# Altium schematic symbol library PBL - Connectors.SCHLIB: 91 symbols (part 1 of 2)
Pins are listed as number, name and electrical type; pins without a type are passive.

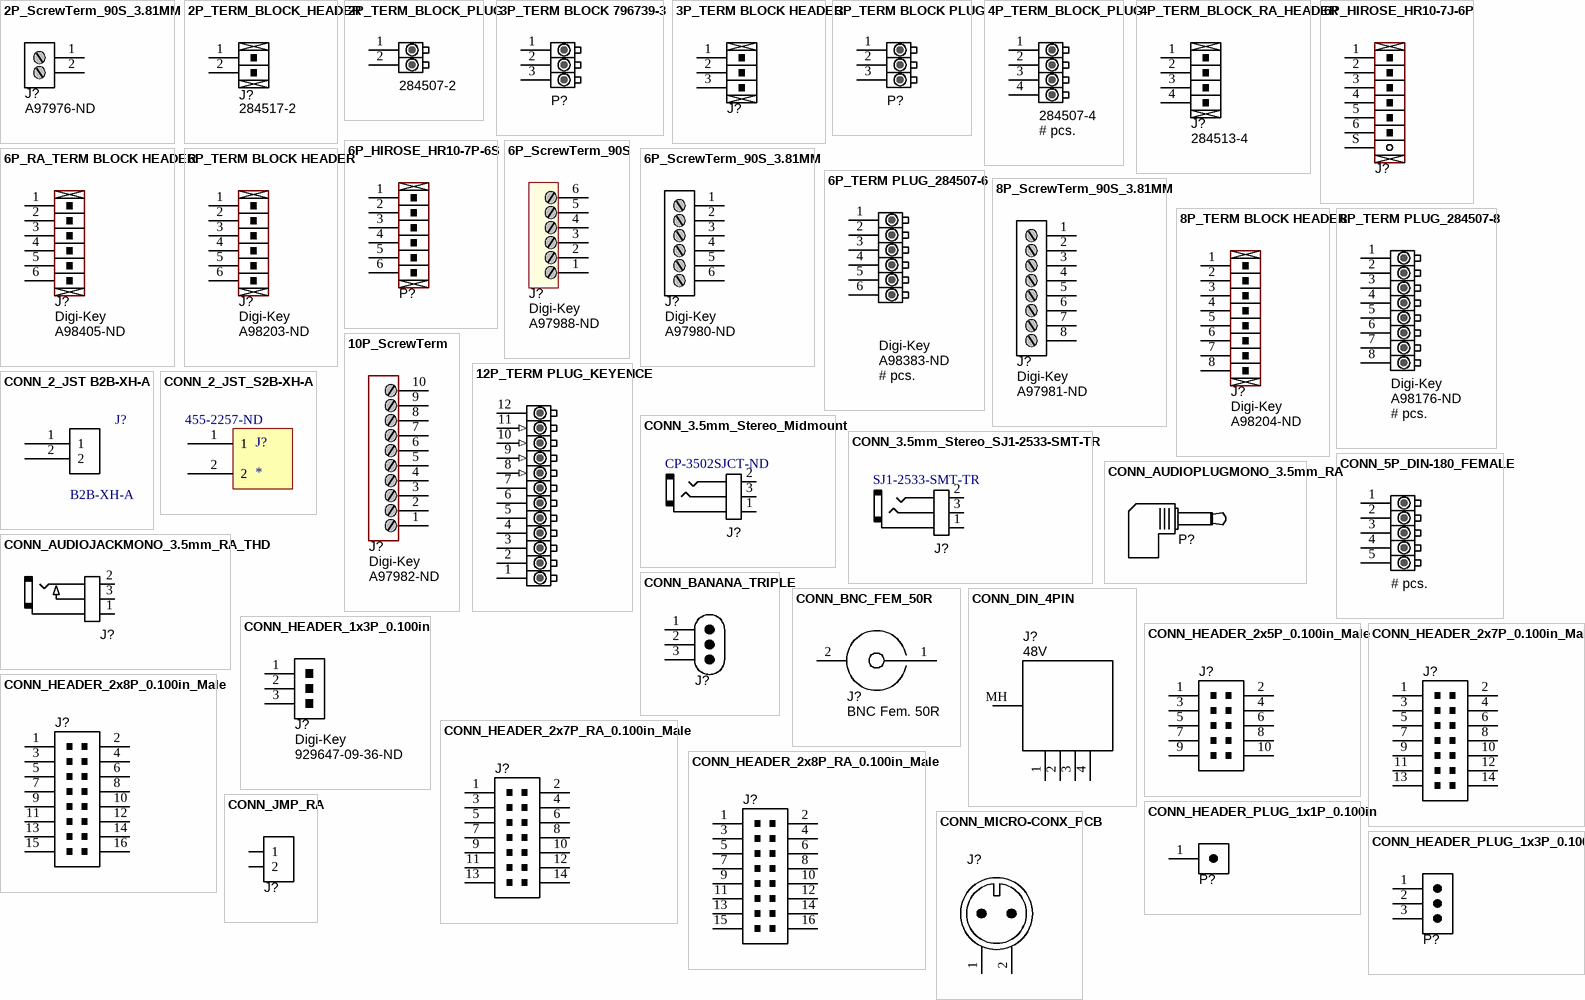
[diagram p0: symbols 2P_ScrewTerm_90S_3.81MM to CONN_MICRO-CONX_PCB]

## 2P_ScrewTerm_90S_3.81MM
designator J?, comment Supplier Part Number 1: A97976-ND  (hidden comment: Stackable ScrewTerm)
Terminal Block Screw Type THT 2-Position 3.81mm pitch; Manufacturer 1: Tyco Electronics; Manufacturer Part Number 1: 1776113-2; Value: 2 position; Pitch: 0.150" (3.81mm); Positions Per Level: 2; SCDType: undef; Package / Case: Side Entry; 3.81mm pitch; Category: Connectors Interconnects; Color: Black; Supplier 1: Digi-Key
footprint 2P_PCB_ScrewTerm_90S_3.81MM (TERM BLOCK 2POS SIDE ENT STACKABLE 3.81MM)
pins: 1, 2

## 2P_TERM_BLOCK_HEADER
designator J?  Manufacturer Part Number 1: 284517-2  (hidden comment: *)
Terminal Block THT 2-position header 3.81mm pitch; Manufacturer 1: TE Connectivity; Pitch: 0.150" (3.81mm); Voltage: 300V; Positions Per Level: 2; Mating Connector: 284507-2; SCDType: undef; Category: Connectors; Mounting Type: Through Hole; Terminal Block Type: Header, Male Pins, Right-angle, Shrouded (4 Side); Package / Case: Header; 3.81mm pitch; Supplier 1: Digi-Key; Supplier Part Number 1: A98410-ND
footprint 2P_PCB_TERM_BLOCK_HDR (TERM BLOCK HDR 2POS 3.81MM)
pins: 1, 2

## 2P_TERM_BLOCK_PLUG
designator J?, comment Manufacturer Part Number 1: 284507-2  (hidden comment: # pcs.)  (mechanical)
Terminal Block Plug 2-position 3.81mm pitch; Manufacturer 1: Tyco Electronics; Pitch: 0.150" (3.81mm); Mating Orientation: In-Line with Wire; Current: 11A; Voltage: 300V; Wire Gauge: 14-30 AWG; Number of Levels: 1; Positions Per Level: 2; SCDType: undef; Category: Connectors Interconnects; Terminal Block Type: Plug, Female Sockets; Color: Green; Mounting Type: Free Hanging (In-Line); Termination: Screw; ComponentLink1URL: http://documents.tycoelectronics.com/commerce/DocumentDelivery/DDEController?Action=srchrtrv&DocNm=284507&DocType=CD&DocLang=EN; ComponentLink1Description: http://documents.tycoelectronics.com/commerce/DocumentDelivery/DDEController?Action=srchrtrv&DocNm=284507&DocType=CD&DocLang=EN; Supplier 1: Digi-Key; Supplier Part Number 1: A98175-ND
pins: 1, 2

## 3P_TERM BLOCK 796739-3
designator P?  (value not drawn)
3 Position Wire to Board Terminal Block Horizontal with Board 0.375" (9.53mm) Through Hole; Manufacturer: TE Connectivity AMP Connectors; Manufacturer Part Number: 796739-3; Number of Levels: 1; Positions Per Level: 3; Current: 30A; Voltage: 600V; Wire Gauge: 10-30 AWG; Wire Termination: Screw - Rising Cage Clamp; Clamp Material - Plating: Brass - Nickel Plated; Torque - Screw: 0.79 Nm (7.0 Lb-In); Screw Thread: M3; Supplier 1: Digi-Key; Supplier Part Number 1: A98274-ND; RoHS: RoHS Compliant; Category: Connectors, Interconnects; Stock 1: 1080; Pricing 1: 1=5.17, 10=3.942, 25=3.692, 50=3.2816, 100=3.2104, 250=2.96064, 500=2.6753, 1000=2.37209, 2500=2.274 (USD); Packaging: Tray; Part Status: Active; Pitch: 0.375" (9.53mm); Mating Orientation: Horizontal with Board; Mounting Type: Through Hole; Features: Interlocking (Side); Color: Green; Operating Temperature: -; Housing Material: Polyamide (PA66), Nylon 6/6; Contact Material - Plating: -; Screw Material - Plating: Brass - Nickel Plated; ComponentLink1URL: http://www.te.com/commerce/DocumentDelivery/DDEController?Action=srchrtrv&DocNm=796739&DocType=Customer+Drawing&DocLang=English; ComponentLink1Description: http://www.te.com/commerce/DocumentDelivery/DDEController?Action=srchrtrv&DocNm=796739&DocType=Customer+Drawing&DocLang=English
footprint TE 796739-3 3 Screw Terminal
pins: 1, 2, 3

## 3P_TERM BLOCK HEADER
designator J?  (value not drawn)
Terminal Block THT 3-Position header 3.81mm pitch; Manufacturer 1: TE Connectivity; Manufacturer Part Number 1: 284517-3; Pitch: 0.150" (3.81mm); Voltage: 300V; Mating Connector: 284507-3; Value: 3 position; Positions Per Level: 3; SCDType: undef; Category: Connectors; Mounting Type: Through Hole; Terminal Block Type: Header, Male Pins, Shrouded (4 Side); Package / Case: Side Entry; 3.81mm pitch; Supplier 1: Digi-Key; Supplier Part Number 1: A98411-ND; ComponentLink1URL: http://www.te.com/commerce/DocumentDelivery/DDEController?Action=srchrtrv&DocNm=284517&DocType=Customer+Drawing&DocLang=English; ComponentLink1Description: http://www.te.com/commerce/DocumentDelivery/DDEController?Action=srchrtrv&DocNm=284517&DocType=Customer+Drawing&DocLang=English
footprint 3P_PCB_TERM_BLOCK_HDR (TERM BLOCK HDR 3POS 3.81MM)
pins: 1, 2, 3

## 3P_TERM BLOCK PLUG
designator P?  (value not drawn)  (mechanical)
Terminal block plug 3-position 3.81mm pitch; Manufacturer 1: TE Connectivity; Manufacturer Part Number 1: 284507-3; Pitch: 0.150" (3.81mm); Voltage: 300V; Mating Connector: 284517-3; Value: 3 position; Positions Per Level: 3; Plug Wire Entry: 180°; Wire Gauge: 14-30 AWG; SCDType: undef; Category: Connectors; Mounting Type: Free Hanging (In-Line); Terminal Block Type: Plug, Female Sockets; Supplier 1: Digi-Key; Supplier Part Number 1: A98380-ND; ComponentLink2URL: http://www.te.com/commerce/DocumentDelivery/DDEController?Action=srchrtrv&DocNm=284507&DocType=Customer+Drawing&DocLang=English; ComponentLink2Description: http://www.te.com/commerce/DocumentDelivery/DDEController?Action=srchrtrv&DocNm=284507&DocType=Customer+Drawing&DocLang=English
pins: 1, 2, 3

## 4P_TERM_BLOCK_PLUG
designator J?, comment # pcs.  Manufacturer Part Number 1: 284507-4  (mechanical)
Terminal Block Plug 4-position 3.81mm pitch; Manufacturer 1: Tyco Electronics; Pitch: 0.150" (3.81mm); Mating Orientation: In-Line with Wire; Current: 11A; Voltage: 300V; Wire Gauge: 14-30 AWG; Number of Levels: 1; Positions Per Level: 4; Value: 4 position; SCDType: undef; Category: Connectors Interconnects; Terminal Block Type: Plug, Female Sockets; Color: Green; Mounting Type: Free Hanging (In-Line); Features: -; Termination: Screw; ComponentLink1URL: http://documents.tycoelectronics.com/commerce/DocumentDelivery/DDEController?Action=srchrtrv&DocNm=284507&DocType=CD&DocLang=EN; ComponentLink1Description: http://documents.tycoelectronics.com/commerce/DocumentDelivery/DDEController?Action=srchrtrv&DocNm=284507&DocType=CD&DocLang=EN; QtyOverride: *; Supplier 1: Digi-Key; Supplier Part Number 1: A98381-ND
pins: 1, 2, 3, 4

## 4P_TERM_BLOCK_RA_HEADER
designator J?  Manufacturer Part Number 1: 284513-4  (hidden comment: *)
Terminal Block THT Right Angle 4-Position Header 3.81mm pitch; Manufacturer 1: Tyco Electronics; Pitch: 0.150" (3.81mm); Voltage: 300V; Value: 4 position; Positions Per Level: 6; SCDType: undef; Category: Connectors; Mounting Type: Through Hole; Terminal Block Type: Header, Male Pins, Right-angle, Shrouded (4 Side); Package / Case: Side Entry; 3.81mm pitch; Supplier 1: Digi-Key; Supplier Part Number 1: A98403-ND
footprint 4P_PCB_TERM_BLOCK_HDR_RA (TERM BLOCK HDR 4POS 3.81MM RIGHT-ANGLE)
pins: 1, 2, 3, 4

## 6P_HIROSE_HR10-7J-6P
designator J?, comment HR10-7J-6P(73)  (value not drawn)
Connector 6 jack with pin insert; Manufacturer 1: Hirose Electric Co Ltd; Value: 6 position; SCDType: undef; Category: Connectors; Manufacturer Part Number 1: HR10-7J-6P(73); Supplier 1: Digi-Key; Supplier Part Number 1: HR1567-ND
footprint HDR1X6S (Connector; Header; 6 Position with shield term)
pins: 1, 2, 3, 4, 5, 6, S

## 6P_HIROSE_HR10-7P-6S
designator P?, comment HR10-7P-6S(73)  (value not drawn)
Connector 6 contact with socket insert; Manufacturer 1: Hirose Electric Co Ltd; Value: 6 position; SCDType: undef; Category: Connectors; Manufacturer Part Number 1: HR10-7P-6S(73); Supplier 1: Digi-Key; Supplier Part Number 1: HR1561-ND
footprint HDR1X6 (Connector; Header; 6 Position)
pins: 1, 2, 3, 4, 5, 6

## 6P_RA_TERM BLOCK HEADER
designator J?  Supplier 1: Digi-Key  Supplier Part Number 1: A98405-ND  (hidden comment: *)
Terminal Block THT Right Angle 6-Position Header 3.81mm pitch; Manufacturer 1: Tyco Electronics; Manufacturer Part Number 1: 284513-6; Pitch: 0.150" (3.81mm); Voltage: 300V; Mating Connector: 284507-6; Value: 6 position; Positions Per Level: 6; SCDType: undef; Category: Connectors; Mounting Type: Through Hole; Terminal Block Type: Header, Male Pins, Right-angle, Shrouded (4 Side); Package / Case: Side Entry; 3.81mm pitch
footprint 6P_PCB_TERM BLOCK HDR_RA (TERM BLOCK HDR 6POS 3.81MM RIGHT-ANGLE)
pins: 1, 2, 3, 4, 5, 6

## 6P_ScrewTerm_90S
designator J?  Supplier 1: Digi-Key  Supplier Part Number 1: A97988-ND  (hidden comment: *)
TERM BLOCK 6POS SIDE ENT STACKABLE 5.08MM; Manufacturer 1: Tyco Electronics; Manufacturer Part Number 1: 1776119-6; Current: 10A; Mating Orientation: Horizontal with Board; Pitch: 0.200" (5.08mm); Voltage: 300V; Wire Gauge: 15-17 AWG; Number of Levels: 1; Positions Per Level: 6; SCDType: undef; Category: Connectors Interconnects; Color: Black; Features: -; Mounting Type: Through Hole; Terminal Block Type: Wire to Board; Termination: Screw; ComponentLink1URL: http://documents.tycoelectronics.com/commerce/DocumentDelivery/DDEController?Action=srchrtrv&DocNm=1776119&DocType=CD&DocLang=EN; ComponentLink1Description: http://documents.tycoelectronics.com/commerce/DocumentDelivery/DDEController?Action=srchrtrv&DocNm=1776119&DocType=CD&DocLang=EN; Package / Case: Side Entry; 5.08mm pitch
footprint 6P_PCB_ScrewTerm90S (TERM BLOCK 6POS SIDE ENT STACKABLE 5.08MM)
pins: 1, 2, 3, 4, 5, 6

## 6P_ScrewTerm_90S_3.81MM
designator J?, comment Supplier 1: Digi-Key  Supplier Part Number 1: A97980-ND  (hidden comment: Stackable ScrewTerm)
Terminal Block, THT, 6-Position screwterm, 3.81mm pitch; Manufacturer 1: Tyco Electronics; Manufacturer Part Number 1: 1776113-6; Value: 6 position; Pitch: 0.150" (3.81mm); Positions Per Level: 6; SCDType: undef; Package / Case: Side Entry; 3.81mm pitch; Category: Connectors Interconnects; Color: Black
footprint 6P_PCB_ScrewTerm_90S_3.81MM (TERM BLOCK 6POS SIDE ENT STACKABLE 3.81MM)
pins: 1, 2, 3, 4, 5, 6

## 6P_TERM BLOCK HEADER
designator J?  Supplier 1: Digi-Key  Supplier Part Number 1: A98203-ND  (hidden comment: *)
Terminal Block, THT, 6-Position header, 3.81mm pitch; Manufacturer 1: Tyco Electronics; Manufacturer Part Number 1: 284517-6; Pitch: 0.150" (3.81mm); Voltage: 300V; Mating Connector: 284507-6; Value: 6 position; Positions Per Level: 6; SCDType: undef; Category: Connectors; Mounting Type: Through Hole; Terminal Block Type: Header, Male Pins, Shrouded (4 Side); Package / Case: Side Entry; 3.81mm pitch
footprint 6P_PCB_TERM BLOCK HDR (TERM BLOCK HDR 6POS 3.81MM)
pins: 1, 2, 3, 4, 5, 6

## 6P_TERM PLUG_284507-6
designator J?, comment # pcs.  Supplier 1: Digi-Key  Supplier Part Number 1: A98383-ND  (mechanical)
Terminal Block Plug, 6-position, 3.81mm pitch; Manufacturer 1: Tyco Electronics; Manufacturer Part Number 1: 284507-6; Pitch: 0.150" (3.81mm); Mating Orientation: In-Line with Wire; Current: 11A; Voltage: 300V; Wire Gauge: 14-30 AWG; Number of Levels: 1; Positions Per Level: 6; Value: 6 position; SCDType: undef; Category: Connectors Interconnects; Terminal Block Type: Plug, Female Sockets; Color: Green; Mounting Type: Free Hanging (In-Line); Features: -; Termination: Screw; QtyOverride: *
pins: 1, 2, 3, 4, 5, 6

## 8P_ScrewTerm_90S_3.81MM
designator J?, comment Supplier 1: Digi-Key  Supplier Part Number 1: A97981-ND  (hidden comment: Stackable ScrewTerm)
Terminal Block, THT, 8-Position screwterm, 3.81mm pitch; Manufacturer 1: Tyco Electronics; Manufacturer Part Number 1: 1776113-8; Value: 8 position; Pitch: 0.150" (3.81mm); Positions Per Level: 8; SCDType: undef; Package / Case: Side Entry; 3.81mm pitch; Category: Connectors Interconnects; Color: Black
footprint 8P_PCB_ScrewTerm_90S_3.81MM (TERM BLOCK 8POS SIDE ENT STACKABLE 3.81MM)
pins: 1, 2, 3, 4, 5, 6, 7, 8

## 8P_TERM BLOCK HEADER
designator J?  Supplier 1: Digi-Key  Supplier Part Number 1: A98204-ND  (hidden comment: *)
Terminal Block, THT, 8-Position header, 3.81mm pitch; Manufacturer 1: Tyco Electronics; Manufacturer Part Number 1: 284517-8; Pitch: 0.150" (3.81mm); Voltage: 300V; Mating Connector: 284507-8; Value: 8 position; Positions Per Level: 8; SCDType: undef; Category: Connectors; Mounting Type: Through Hole; Terminal Block Type: Header, Male Pins, Shrouded (4 Side); Package / Case: Side Entry; 3.81mm pitch
footprint 8P_PCB_TERM BLOCK HDR (TERM BLOCK HDR 8POS 3.81MM)
pins: 1, 2, 3, 4, 5, 6, 7, 8

## 8P_TERM PLUG_284507-8
designator J?, comment # pcs.  Supplier 1: Digi-Key  Supplier Part Number 1: A98176-ND  (mechanical)
Terminal Block Plug, 8-position, 3.81mm pitch; Manufacturer 1: Tyco Electronics; Manufacturer Part Number 1: 284507-8; Pitch: 0.150" (3.81mm); Mating Orientation: In-Line with Wire; Current: 11A; Voltage: 300V; Wire Gauge: 14-30 AWG; Number of Levels: 1; Positions Per Level: 8; Value: 8 position; SCDType: undef; Category: Connectors Interconnects; Terminal Block Type: Plug, Female Sockets; Color: Green; Mounting Type: Free Hanging (In-Line); Features: -; Termination: Screw; ComponentLink1URL: http://documents.tycoelectronics.com/commerce/DocumentDelivery/DDEController?Action=srchrtrv&DocNm=284507&DocType=CD&DocLang=EN; ComponentLink1Description: http://documents.tycoelectronics.com/commerce/DocumentDelivery/DDEController?Action=srchrtrv&DocNm=284507&DocType=CD&DocLang=EN; QtyOverride: *
pins: 1, 2, 3, 4, 5, 6, 7, 8

## 10P_ScrewTerm
designator J?  Supplier 1: Digi-Key  Supplier Part Number 1: A97982-ND  (hidden comment: *)
TERM BLOCK 10POS SIDE ENT 3.81MM; Manufacturer 1: Tyco Electronics; Manufacturer Part Number 1: 1-1776113-0; Current: 12A; Mating Orientation: Horizontal with Board; Pitch: 0.150" (3.81mm); Voltage: 150V; Wire Gauge: 16-28 AWG; Number of Levels: 1; Positions Per Level: 10; SCDType: undef; Category: Connectors; Color: Black; Features: -; Mounting Type: Through Hole; Terminal Block Type: Wire to Board; Termination: Screw; ComponentLink1URL: http://documents.tycoelectronics.com/commerce/DocumentDelivery/DDEController?Action=srchrtrv&DocNm=1776113&DocType=CD&DocLang=EN; ComponentLink1Description: http://documents.tycoelectronics.com/commerce/DocumentDelivery/DDEController?Action=srchrtrv&DocNm=1776113&DocType=CD&DocLang=EN; Package / Case: Side Entry; 3.81mm pitch
footprint 10P_PCB_ScrewTerm (TERM BLOCK 10POS SIDE ENT 3.81MM)
pins: 1, 2, 3, 4, 5, 6, 7, 8, 9, 10

## 12P_TERM PLUG_KEYENCE
designator J?, comment 12 position  (value not drawn)  (graphical)
Terminal Block Plug, 12-position, Keyence Laser Controller; Wire Gauge: 28-16 AWG; Value: 12 position
pins: 1 24VDC- (power), 2 24VDC+ (power), 3 OUT1 HI (oc), 4 OUT1 GO (oc), 5 OUT1 LO (oc), 6 N.C. (oc), 7 GND OUT (power), 8 TIMING1 (in), 9 RESET1 (in), 10 ZERO1 (in), 11 REMOTE (in), 12 GND IN (power)

## CONN_2_JST B2B-XH-A
designator J?, comment B2B-XH-A
CONN HEADER XH SIDE 2POS 2.5MM; Supplier 1: Digi-Key; Supplier Part Number 1: 455-2247-ND
footprint CONN_JST_XT_TH_2 (CONN HEADER XH TOP 2POS 2.5MM)
pins: 1, 2

## CONN_2_JST_S2B-XH-A
designator J?  Supplier Part Number 1: 455-2257-ND
CONN HEADER XH SIDE 2POS 2.5MM; Supplier 1: Digi-Key
footprint CONN_JST_XH_TH_RIGHT_2 (CONN HEADER XH TOP 2POS 2.5MM)
pins: 1, 2

## CONN_3.5mm_Stereo_Midmount
designator J?, comment Supplier Part Number 1: CP-3502SJCT-ND  (hidden comment: Stereo phone jack)
Stereo phone 3.5 Midmount; SCDType: undef; Material: Plastic, metal; Supplier 1: Digi-Key
footprint SJ-3502-SMT
pins: 1 Base, 2 TIP, 3 Middle

## CONN_3.5mm_Stereo_SJ1-2533-SMT-TR
designator J?, comment SJ1-2533-SMT-TR
Stereo phone 3.5 Midmount; Manufacturer: CUI Inc.; Description: CONN JACK STEREO 2.5MM SMD R/A; Connector Type: Phone Jack; Gender: Female; Signal Lines: Stereo (3 Conductor, TRS); Industry Recognized Mating Diameter: 2.50mm (0.094", 3/32", Sub Mini, Miniature) - Headphone; Actual Diameter: 0.102" (2.60mm); Number of Positions/Contacts: 3 Conductors, 3 Contacts; Internal Switch(s): Does Not Contain Switch; Shielding: Unshielded; Voltage - Rated: 12VDC; Mating Length/Depth: 0.433" (11.00mm); Body Color: Black; Supplier 1: Digi-Key; Supplier Part Number 1: CP1-2533SJCT-ND; RoHS: RoHS Compliant; Category: Connectors, Interconnects; Stock 1: 29051; Pricing 1: 1=1.12, 10=0.982, 25=0.924, 50=0.8856, 100=0.847, 250=0.77, 500=0.693 (USD); Packaging: Cut Tape (CT); Part Status: Active; Mounting Type: Surface Mount, Right Angle; Termination: Solder; Features: Board Guide; Insulation Color: -; Contact Material - Plating: Gold; Body Material: -; Includes: -; Housing Material: Polyamide (PA6T), Nylon 6T; Contact Material: Brass; Copper Alloy; Cable Opening: -; Panel Hole Size: -; Thread Size: -; Operating Temperature: -25°C ~ 85°C; ComponentLink1URL: https://www.cui.com/product/resource/digikeypdf/sj1-253x-smt_series.pdf; ComponentLink1Description: https://www.cui.com/product/resource/digikeypdf/sj1-253x-smt_series.pdf; Manufacturer Part Number: SJ1-2533-SMT-TR
footprint AUDIO_CUI_SJ1
pins: 1 Base, 2 TIP, 3 Middle

## CONN_5P_DIN-180_FEMALE
designator P?, comment # pcs.  (mechanical)
Connector DIN-180 5-Pin Female Plug; Manufacturer 1: CUI Inc; Manufacturer Part Number 1: SD-50J; Mating Orientation: In-Line with Wire; Value: 5-Pin DIN-180; QtyOverride: 1; SCDType: undef; Category: Connectors Interconnects; Mounting Type: Free Hanging (In-Line); Supplier 1: Digi-Key; Supplier Part Number 1: CP-1150-ND
pins: 1, 2, 3, 4, 5

## CONN_AUDIOJACKMONO_3.5mm_RA_THD
designator J?, comment Mono phone jack  (value not drawn)
3.5mm Audio jack - Mono; Manufacturer 1: CUI Inc; Manufacturer Part Number 1: MJ-3502; Ratings: 1A; 12VDC; SCDType: undef; Material: Plastic, brass, silver; Package / Case: right-angle THD; Supplier 1: Digi-Key; Supplier Part Number 1: CP-3502MJ-ND
footprint CONN_AudioJackMono (CUI MJ-3502 3.5mm audio jack - mono)
pins: 1 Base, 2 TIP, 3 Middle

## CONN_AUDIOPLUGMONO_3.5mm_RA
designator P?, comment Mono phone plug  (value not drawn)  (mechanical)
3.5mm Audio plug - Mono; Manufacturer 1: Tensility International Corp; Manufacturer Part Number 1: CA-2206; 1st Connector: Phone Plug, 3.5mm (1/8"), Right Angle; 2nd Connector: Cable (Round); Shielding: Shielded; SCDType: undef; Package / Case: right-angle THD; Supplier 1: Digi-Key; Supplier Part Number 1: CP-2206-ND; Channels: Mono; Length: 6.0' (1.83m); Color: Black; ComponentLink1URL: http://www.tensility.com/pdffiles/CA-2206.pdf; ComponentLink1Description: http://www.tensility.com/pdffiles/CA-2206.pdf
pins: 1, 2

## CONN_BANANA_TRIPLE
designator J?, comment triple banana jack  (value not drawn)
Banana Jack triple panel mount; Manufacturer 1: Pomona Electronics; Manufacturer Part Number 1: 4601-0; Value: Single-row, 3 positions; Insulation: Mating End Insulated; SCDType: undef; Supplier 1: Digi-Key; Supplier Part Number 1: 501-1379-ND; Type: Banana Jack, Triple; Mounting Type: Panel Mount; Contact Finish: Tin; Contact Material: Brass; ComponentLink1URL: http://www.pomonaelectronics.com/pdf/d4601_1_01.pdf; ComponentLink1Description: http://www.pomonaelectronics.com/pdf/d4601_1_01.pdf
footprint BANANA_TRIPLE (Triple Banana jack, panel mount style)
pins: 1, 2, 3

## CONN_BNC_FEM_50R
designator J?, comment BNC Fem. 50R
Connector BNC 50 Ohm right-angle PCB mounted; Manufacturer 1: TE Connectivity; Manufacturer Part Number 1: 5413515-9; Impedance: 50 Ohm; Ratings: 9400pF; 1500V; SCDType: undef; Category: Connectors; Mounting Type: Through Hole; Supplier 1: Digi-Key; Supplier Part Number 1: A32418-ND; ComponentLink1URL: http://www.te.com/commerce/DocumentDelivery/DDEController?Action=srchrtrv&DocNm=5413515&DocType=Customer+Drawing&DocLang=English; ComponentLink1Description: TE Datasheet
footprint CONN_BNC_RA_PCB (BNC connector, right angle PCB-mounted)
pins: 1, 2

## CONN_DIN_4PIN
designator J?, comment 48V
Connector Power THT 4-PIN DIN Female PCB mount; Manufacturer 1: CUI Inc; Manufacturer Part Number 1: PD-40S; SCDType: undef; Mounting Type: Through Hole; Package / Case: PCB mount; Value: 4-Pin DIN; Supplier 1: Digi-Key; Supplier Part Number 1: CP-7240-ND
footprint CONN_PWR-DIN_4PIN_PD-40S (Power Connector, 4-pin DIN)
pins: 1 +V, 2 GND, 3 GND, 4 +V, MH

## CONN_HEADER_1x3P_0.100in
designator J?  Supplier 1: Digi-Key  Supplier Part Number 1: 929647-09-36-ND  (hidden comment: *)
Pin Header, THT, Single-row, 2.54mm pitch; Manufacturer 1: 3M; Manufacturer Part Number 1: 929647-09-36-I; Pitch: 0.100" (2.54mm); Value: Single-row, 3 positions; QtyOverride: 0.1; SCDType: undef; Category: Connectors; Mounting Type: Through Hole; Terminal Block Type: Header, Male Pins, Single; Package / Case: Pin header; 2.54mm pitch
footprint 1x3POS_HEADER (Connector Header, Single-row 3-position, 0.100" pitch)
pins: 1, 2, 3

## CONN_HEADER_2x5P_0.100in_Male
designator J?, comment shrouded box header  (value not drawn)
Header THD 10 POS Double-row 2.54mm pitch; Manufacturer 1: 3M; Manufacturer Part Number 1: D2510-6002-AR; Pitch: 0.100" (2.54mm); Value: Double-row, 10 positions; QtyOverride: 1; Connector Type: Header, Shrouded; Number of Positions: 10; SCDType: undef; Package / Case: Connector header; 2.54mm pitch; Contact Type: Male Pin; Number of Rows: 2; Row Spacing: 0.100" (2.54mm); Contact Mating Length: 0.243" (6.17mm); ComponentLink1URL: http://multimedia.3m.com/mws/mediawebserver?66666UuZjcFSLXTtm8T_oxMcEVuQEcuZgVs6EVs6E666666--; ComponentLink1Description: http://multimedia.3m.com/mws/mediawebserver?66666UuZjcFSLXTtm8T_oxMcEVuQEcuZgVs6EVs6E666666--; Supplier 1: Digi-Key; Supplier Part Number 1: MHC10E-ND
footprint 10P_PCB_HEADER_BRD_MNT (HEADER BRD MNT 10POS 2.54MM)
pins: 1, 2, 3, 4, 5, 6, 7, 8, 9, 10

## CONN_HEADER_2x7P_0.100in_Male
designator J?, comment shrouded box header  (value not drawn)
Header THD 14 POS Double-row 2.54mm pitch; Manufacturer 1: 3M; Manufacturer Part Number 1: D2514-6002-AR; Pitch: 0.100" (2.54mm); Value: Double-row, 14 positions; QtyOverride: 1; Connector Type: Header, Shrouded; Number of Positions: 14; SCDType: undef; Package / Case: Connector header; 2.54mm pitch; Contact Type: Male Pin; Number of Rows: 2; Row Spacing: 0.100" (2.54mm); Contact Mating Length: 0.243" (6.17mm); ComponentLink1URL: http://multimedia.3m.com/mws/mediawebserver?66666UuZjcFSLXTtm8T_oxMcEVuQEcuZgVs6EVs6E666666--; ComponentLink1Description: http://multimedia.3m.com/mws/mediawebserver?66666UuZjcFSLXTtm8T_oxMcEVuQEcuZgVs6EVs6E666666--; Supplier 1: Digi-Key; Supplier Part Number 1: MHC14E-ND
footprint 14P_PCB_HEADER_BRD_MNT (HEADER BRD MNT 14POS 2.54MM)
pins: 1, 2, 3, 4, 5, 6, 7, 8, 9, 10, 11, 12, 13, 14

## CONN_HEADER_2x7P_RA_0.100in_Male
designator J?, comment shrouded box header  (value not drawn)
Header THD 14 POS Double-row right-angle 2.54mm pitch; Manufacturer 1: 3M; Manufacturer Part Number 1: D2514-5002-AR; Pitch: 0.100" (2.54mm); Value: Double-row, 14 positions; QtyOverride: 1; Connector Type: Header, Shrouded; Number of Positions: 14; SCDType: source; Package / Case: Connector header; 2.54mm pitch; Contact Type: Male Pin; Number of Rows: 2; Row Spacing: 0.100" (2.54mm); Contact Mating Length: 0.243" (6.17mm); ComponentLink1URL: http://multimedia.3m.com/mws/mediawebserver?66666UuZjcFSLXTtm8T_oxMcEVuQEcuZgVs6EVs6E666666--; ComponentLink1Description: http://multimedia.3m.com/mws/mediawebserver?66666UuZjcFSLXTtm8T_oxMcEVuQEcuZgVs6EVs6E666666--; Supplier 1: Digi-Key; Supplier Part Number 1: MHE14E-ND
footprint 14P_PCB_HEADER_BRD_MNT_RA (HEADER BRD MNT R/A 14POS 2.54MM)
pins: 1, 2, 3, 4, 5, 6, 7, 8, 9, 10, 11, 12, 13, 14

## CONN_HEADER_2x8P_0.100in_Male
designator J?, comment shrouded box header  (value not drawn)
Header THD 16 POS Double-row 2.54mm pitch; Manufacturer 1: 3M; Manufacturer Part Number 1: D2516-6002-AR; Pitch: 0.100" (2.54mm); Value: Double-row, 16 positions; QtyOverride: 1; Connector Type: Header, Shrouded; Number of Positions: 16; SCDType: undef; Package / Case: Connector header; 2.54mm pitch; Contact Type: Male Pin; Number of Rows: 2; Row Spacing: 0.100" (2.54mm); Contact Mating Length: 0.243" (6.17mm); ComponentLink1URL: http://multimedia.3m.com/mws/mediawebserver?66666UuZjcFSLXTtm8T_oxMcEVuQEcuZgVs6EVs6E666666--; ComponentLink1Description: http://multimedia.3m.com/mws/mediawebserver?66666UuZjcFSLXTtm8T_oxMcEVuQEcuZgVs6EVs6E666666--; Supplier 1: Digi-Key; Supplier Part Number 1: MHC16E-ND
footprint 16P_PCB_HEADER_BRD_MNT (HEADER BRD MNT 16POS 2.54MM)
pins: 1, 2, 3, 4, 5, 6, 7, 8, 9, 10, 11, 12, 13, 14, 15, 16

## CONN_HEADER_2x8P_RA_0.100in_Male
designator J?, comment shrouded box header  (value not drawn)
Header THD 16 POS Right-angle Double-row 2.54mm pitch; Manufacturer 1: 3M; Manufacturer Part Number 1: D2516-5002-AR; Pitch: 0.100" (2.54mm); Value: Double-row, 16 positions; QtyOverride: 1; Connector Type: Header, Shrouded; Number of Positions: 16; SCDType: undef; Package / Case: Connector header; 2.54mm pitch; Supplier 1: Digi-Key; Supplier Part Number 1: MHE16E-ND; Contact Type: Male Pin; Number of Rows: 2; Row Spacing: 0.100" (2.54mm); Contact Mating Length: 0.243" (6.17mm); ComponentLink1URL: http://multimedia.3m.com/mws/mediawebserver?66666UuZjcFSLXTtm8T_oxMcEVuQEcuZgVs6EVs6E666666--; ComponentLink1Description: http://multimedia.3m.com/mws/mediawebserver?66666UuZjcFSLXTtm8T_oxMcEVuQEcuZgVs6EVs6E666666--
footprint 16P_PCB_HEADER_BRD_MNT_RA (HEADER BRD MNT R/A 16POS 2.54MM)
pins: 1, 2, 3, 4, 5, 6, 7, 8, 9, 10, 11, 12, 13, 14, 15, 16

## CONN_HEADER_PLUG_1x1P_0.100in
designator P?  (value not drawn)
Pin header for socket THT 1-Pos Low profile Single-row 2.54mm pitch; Manufacturer 1: Mill-Max Manufacturing Corp.; Manufacturer Part Number 1: 800-10-064-10-002000; Pitch: 0.100" (2.54mm); Value: 1x1 Pos.; QtyOverride: 0.02; SCDType: undef; Category: Connectors; Mounting Type: Through Hole; Package / Case: Socket header; 2.54mm pitch; Supplier 1: Digi-Key; Supplier Part Number 1: ED7564-ND
footprint 1x1POS_HEADER_LOWPROF (Connector Header, Single-row 1-position, 0.100" pitch)
pins: 1

## CONN_HEADER_PLUG_1x3P_0.100in
designator P?  (value not drawn)
Pin header for socket THT 3-Pos Low profile Single-row 2.54mm pitch; Manufacturer 1: Mill-Max Manufacturing Corp.; Manufacturer Part Number 1: 800-10-064-10-002000; Pitch: 0.100" (2.54mm); Value: 1x3 Pos.; QtyOverride: 0.05; SCDType: undef; Category: Connectors; Mounting Type: Through Hole; Package / Case: Socket header; 2.54mm pitch; Supplier 1: Digi-Key; Supplier Part Number 1: ED7564-ND
footprint 1x3POS_HEADER_LOWPROF (Connector Header, Single-row 3-position, 0.100" pitch)
pins: 1, 2, 3

## CONN_JMP_RA
designator J?, comment Connector, jumper  (value not drawn)
Connector Header 0.100in Right-angle single row; Manufacturer 1: Samtec Inc; Manufacturer Part Number 1: TSW-150-08-L-S-RA; QtyOverride: 0.05; SCDType: undef; Package / Case: Single-row pin header, male; Material: Plastic, metal; Supplier 1: Digi-Key; Supplier Part Number 1: SAM1043-50-ND
footprint JMP2_RA (2-pin RA jumper, 0.1" .025 pins)
pins: 1, 2

## CONN_MICRO-CONX_PCB
designator J?, comment Micro-Con-X sealed connector  (value not drawn)
Micro-Con-X Panel Mount Receptacle 2-pin PC Tail Contacts; Manufacturer 1: CONXALL; Manufacturer Part Number 1: 17292-2PG-300; SCDType: undef; Mounting Type: PCB with panel mount; Package / Case: PCB mount; Value: 2-pin
footprint CONN_JACK_MICRO-CONX (Micro-ConX 17292-2PG-300)
pins: 1, 2

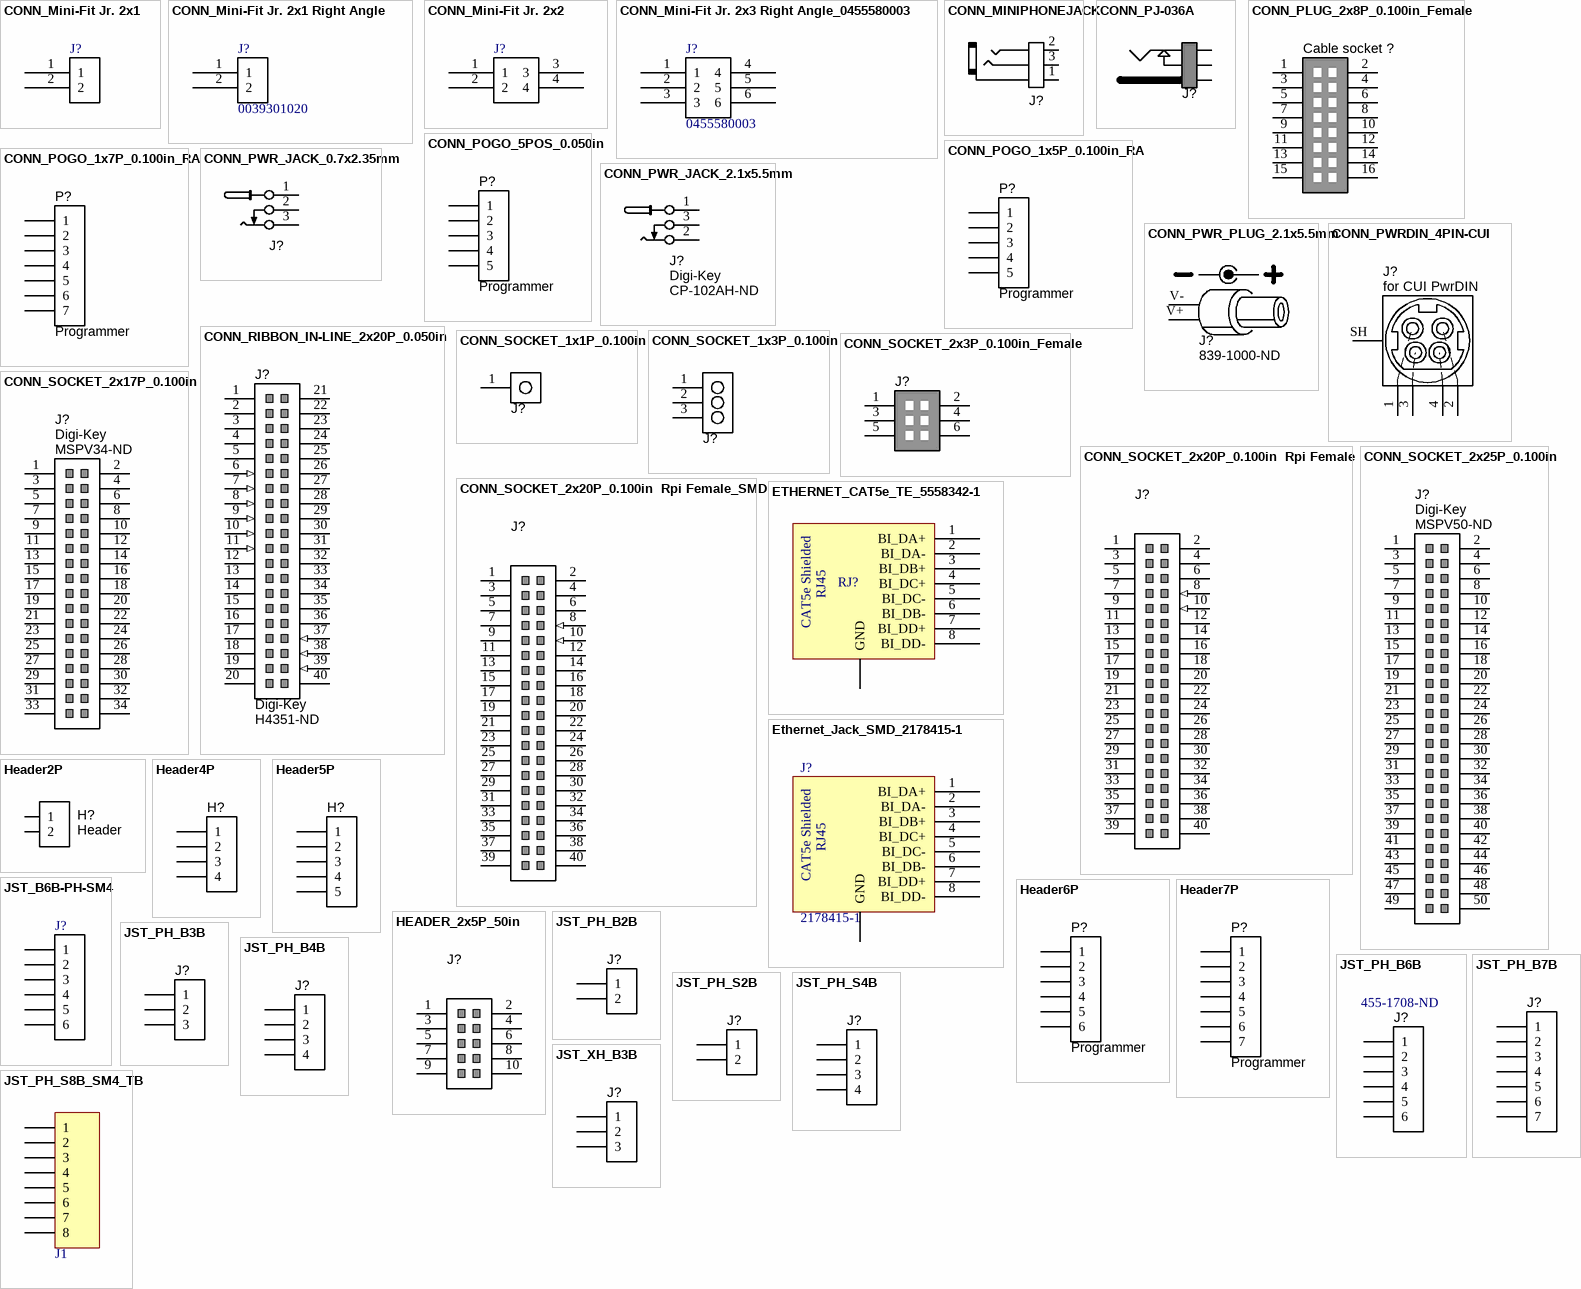
[diagram p1: symbols CONN_Mini-Fit Jr. 2x1 to JST_XH_B3B]

## CONN_Mini-Fit Jr. 2x1
designator J?, comment 0039281023  (value not drawn)
2 Positions Header, Shrouded Connector Through Hole Tin; Supplier 1: Digi-Key; Supplier Part Number 1: WM3800-ND
footprint MiniFit JR 2x1 (4 Positions Header, Shrouded Connector 0.165" (4.20mm) Through Hole Tin)
pins: 1, 2

## CONN_Mini-Fit Jr. 2x1 Right Angle
designator J?, comment 0039301020
Connector Header Through Hole, Right Angle 2 position; Manufacturer: Molex, LLC; Number of Positions: 2; Row Spacing - Mating: 0.165" (4.20mm); Number of Positions Loaded: All; Style: Board to Cable/Wire; Shrouding: Shrouded - 4 Wall; Contact Length - Post: 0.142" (3.60mm); Material Flammability Rating: UL94 V-2; Supplier 1: Digi-Key; Supplier Part Number 1: WM1351-ND; RoHS: RoHS Compliant; Category: Connectors, Interconnects; Stock 1: 10504; Pricing 1: 1=0.54, 10=0.505, 100=0.3873, 500=0.3368, 1000=0.27786, 5000=0.24418, 10000=0.22734 (USD); Packaging: Bulk; Part Status: Active; Connector Type: Header; Contact Type: Male Pin; Pitch - Mating: -; Number of Rows: 2; Mounting Type: Through Hole, Right Angle; Termination: Solder; Fastening Type: Locking Ramp; Contact Length - Mating: -; Overall Contact Length: -; Insulation Height: 0.378" (9.60mm); Contact Shape: Square; Contact Finish - Mating: Tin; Contact Finish Thickness - Mating: 100.0µin (2.54µm); Contact Finish - Post: Tin; Contact Material: Brass; Insulation Material: Polyamide (PA66), Nylon 6/6; Features: Board Lock; Operating Temperature: -; Ingress Protection: -; Insulation Color: Natural; Current Rating: -; Voltage Rating: -; Mated Stacking Heights: -; Contact Finish Thickness - Post: 100.0µin (2.54µm); Applications: General Purpose, Industrial, Telecommunications; ComponentLink1URL: https://www.molex.com/pdm_docs/sd/039301020_sd.pdf; ComponentLink1Description: https://www.molex.com/pdm_docs/sd/039301020_sd.pdf; Manufacturer Part Number: 0039301020
footprint 0039301020 (Mini Fit JR. Right angle 2x1)
pins: 1, 2

## CONN_Mini-Fit Jr. 2x2
designator J?, comment 0039281043  (value not drawn)
4 Positions Header, Shrouded Connector 0.165" (4.20mm) Through Hole Tin; Supplier 1: Digi-Key; Supplier Part Number 1: WM3801-ND
footprint MiniFit JR 2x2 (4 Positions Header, Shrouded Connector 0.165" (4.20mm) Through Hole Tin)
pins: 1, 2, 3, 4

## CONN_Mini-Fit Jr. 2x3 Right Angle_0455580003
designator J?, comment 0455580003
Connector Header Through Hole, Right Angle 2 position; Manufacturer: Molex Connector Corporation; Pitch - Mating: 0.165" (4.20mm); Number of Positions: 6; Number of Positions Loaded: All; Style: Board to Cable/Wire; Shrouding: Shrouded - 4 Wall; Contact Length - Post: 0.142" (3.60mm); Material Flammability Rating: UL94 V-0; Supplier 1: Digi-Key; Supplier Part Number 1: WM10869-ND; RoHS: RoHS Compliant; Category: Connectors, Interconnects; Stock 1: 10831; Pricing 1: 1=0.78, 10=0.689, 25=0.648, 50=0.621, 100=0.594, 250=0.54, 500=0.486, 1000=0.432, 2500=0.3915 (USD); Packaging: Tray; Part Status: Active; Connector Type: Header; Contact Type: Male Pin; Number of Rows: 2; Row Spacing - Mating: 0.165" (4.20mm); Mounting Type: Through Hole, Right Angle; Termination: Solder; Fastening Type: Locking Ramp; Contact Length - Mating: -; Overall Contact Length: -; Insulation Height: 0.378" (9.60mm); Contact Shape: Square; Contact Finish - Mating: Tin; Contact Finish Thickness - Mating: 100.0µin (2.54µm); Contact Finish - Post: Tin; Contact Material: Brass; Insulation Material: Polyamide (PA), Nylon; Features: Board Lock; Operating Temperature: -; Ingress Protection: -; Insulation Color: Black; Current Rating: -; Voltage Rating: -; Mated Stacking Heights: -; Contact Finish Thickness - Post: 100.0µin (2.54µm); Applications: General Purpose, Industrial, Telecommunications; ComponentLink1URL: https://www.molex.com/pdm_docs/sd/455580003_sd.pdf; ComponentLink1Description: https://www.molex.com/pdm_docs/sd/455580003_sd.pdf; Manufacturer Part Number: 0455580003
footprint 0050362462 Mini Fit JR 2x6 Right Angle (Mini Fit JR 2x6 Right Angle)
pins: 1, 2, 3, 4, 5, 6

## CONN_MINIPHONEJACK
designator J?, comment Stereo phone jack  (value not drawn)
Stereo phone jack mini; Manufacturer 1: CUI Inc; Manufacturer Part Number 1: SJ1-2513-SMT; SCDType: undef; Material: Plastic, metal; Supplier 1: Digi-Key; Supplier Part Number 1: CP1-2513SJCT-ND
footprint CONN_PhoneMiniStereo (CUI SJ1-2513-SMT 2.5mm stereo jack)
pins: 1 Base, 2 TIP, 3 Middle

## CONN_PJ-036A
designator J?, comment PJ-036A-SMT  (value not drawn)
Connector SMD power jack 2.0mm x 6.3mm; Manufacturer 1: CUI Inc; SCDType: undef; Material: Plastic, metal; Supplier 1: Digi-Key; Supplier Part Number 1: CP-036APJCT-ND; Manufacturer Part Number 1: PJ-036A-SMT
footprint CUI_PJ-036A-SMT
pins: 1, 2, 3

## CONN_PLUG_2x8P_0.100in_Female
designator Cable socket ?, comment 16 POS IDC socket  (value not drawn)  (mechanical)
Ribbon cable socket 16 POS Double-row 2.54mm pitch; Manufacturer 1: 3M; Manufacturer Part Number 1: 3452-6616; Pitch: 0.100" (2.54mm); Value: Double-row, 16 positions; QtyOverride: 1; Number of Positions: 16; SCDType: undef; Package / Case: Cable socket; 2.54mm pitch; Contact Type: Female socket; Number of Rows: 2; Row Spacing: 0.100" (2.54mm); Supplier 1: Digi-Key; Supplier Part Number 1: 3M11948-ND
pins: 1, 2, 3, 4, 5, 6, 7, 8, 9, 10, 11, 12, 13, 14, 15, 16

## CONN_POGO_1x5P_0.100in_RA
designator P?, comment Programmer
Connector spring pins 5-position 2.54mm pitch right-angle; Manufacturer 1: Mill-Max Manufacturing Corp.; Manufacturer Part Number 1: 829-22-005-20-001101; Connector Type: Piston; Number of Contacts: 5; Pitch: 0.100" (2.54mm); SCDType: Source; Mounting Type: Through Hole, Right Angle; Material: Copper Alloy; Contact Finish: Gold; Number of Rows: 1; Row Spacing: -; Contact Finish Thickness: 20µin (0.51µm); Supplier 1: Digi-Key; Supplier Part Number 1: ED90506-ND; RoHS 1: RoHS Compliant; ComponentLink1URL: http://www.mill-max.com/assets/pdfs/016.PDF; ComponentLink1Description: http://www.mill-max.com/assets/pdfs/016.PDF
footprint CONN_POGO_5POS_RA_0.100IN (Connector; Pogo pins; 5 Position)
pins: 1, 2, 3, 4, 5

## CONN_POGO_1x7P_0.100in_RA
designator P?, comment Programmer
Connector spring pins 7-position 2.54mm pitch right-angle; Manufacturer 1: Mill-Max Manufacturing Corp.; Manufacturer Part Number 1: 829-22-007-20-001101; Connector Type: Piston; Number of Contacts: 7; Pitch: 0.100" (2.54mm); SCDType: undef; Supplier 1: Digi-Key; Supplier Part Number 1: ED90508-ND; Mounting Type: Through Hole, Right Angle; Material: Copper Alloy; Contact Finish: Gold; ComponentLink1URL: http://www.mill-max.com/images/products/pdf/012.1N.PDF; ComponentLink1Description: http://www.mill-max.com/images/products/pdf/012.1N.PDF
footprint CONN_POGO_7POS_RA_0.100IN (Connector; Pogo pins; 7 Position)
pins: 1, 2, 3, 4, 5, 6, 7

## CONN_POGO_5POS_0.050in
designator P?, comment Programmer
Connector spring pins 5-position 1.27mm pitch; Manufacturer 1: Mill-Max Manufacturing Corp.; Manufacturer Part Number 1: 854-22-005-10-001101; Connector Type: Piston; Number of Contacts: 5; Pitch: 0.050" (1.27mm); SCDType: source; Mounting Type: Through Hole; Material: Brass Alloy; Contact Finish: Gold; Supplier 1: Digi-Key; Supplier Part Number 1: 854-22-005-10-001101-ND; RoHS 1: RoHS Compliant; Contact Finish Thickness: 20µin (0.51µm); ComponentLink1URL: http://www.mill-max.com/assets/pdfs/018.PDF; ComponentLink1Description: http://www.mill-max.com/assets/pdfs/018.PDF
footprint CONN_POGO_5POS_MID_1.27MMP (Programming connector; lap-soldered 5 Position pogo style, 0.050" pitch)
pins: 1, 2, 3, 4, 5

## CONN_PWR_JACK_0.7x2.35mm
designator J?  (value not drawn)
Connector Power THT 0.7mm ID x 2.35mm OD; Manufacturer 1: Kobiconn; Manufacturer Part Number 1: 163-4307-E; Value: 0.7mm ID, 2.35mm OD; SCDType: undef; Category: Connectors; Mounting Type: Through Hole; Package / Case: PCB mount; HELPURL: http://www.mouser.com/ProductDetail/Kobiconn/163-4307-E/?qs=FrCfMICDGNKiKC02lNlE3g%3D%3D
footprint CONN_PWR_JACK_0.7x2.35mm (Power Connector, 0.7mm ID, 2.35mm OD)
pins: 1 POS, 2 NC, 3 NEG

## CONN_PWR_JACK_2.1x5.5mm
designator J?  Supplier 1: Digi-Key  Supplier Part Number 1: CP-102AH-ND  (hidden comment: *)
Power Connector, THT, 2.1mm ID, 5.5mm OD; Manufacturer 1: CUI Inc; Manufacturer Part Number 1: PJ-102AH; SCDType: undef; Category: Connectors; Mounting Type: Through Hole; Package / Case: PCB mount; Value: 2.1mm ID, 5.5mm OD
footprint CONN_PWR_JACK_2.1x5.5mm (Power Connector, 2.1mm ID, 5.5mm OD)
pins: 1, 2, 3

## CONN_PWR_PLUG_2.1x5.5mm
designator J?, comment Supplier Part Number 1: 839-1000-ND  (hidden comment: 2.1mm ID; 5.5mm OD; Locking Type)
Power Plug Locking Type 2.1mm ID x 5.5mm OD; Manufacturer 1: Tensility International Corp; Manufacturer Part Number 1: 10-00109; QtyOverride: 0.5; Ratings: 12VDC @ 5A; SCDType: undef; Category: Connectors; Mounting Type: Through Hole; Package / Case: Flying Leads; Value: 2.1mm ID; 5.5mm OD; Locking Type; Supplier 1: Digi-Key
footprint HDR_1x2_Power (Connector Header, Single-row 2-position, 0.200" pitch)
pins: V+, V-

## CONN_PWRDIN_4PIN-CUI
designator J?, comment for CUI PwrDIN
Connector Power THT 4-PIN DIN Female PCB mount; Manufacturer 1: CUI Inc; Manufacturer Part Number 1: PD-40S; SCDType: undef; Mounting Type: Through Hole; Package / Case: PCB mount; Value: 4-Pin DIN; Supplier 1: Digi-Key; Supplier Part Number 1: CP-7240-ND
footprint CONN_PWR-DIN_4PIN_PD-40S (Power Connector, 4-pin DIN)
pins: 1 +V, 2 +V, 3 GND, 4 GND, SH

## CONN_RIBBON_IN-LINE_2x20P_0.050in
designator J?, comment Supplier 1: Digi-Key  Supplier Part Number 1: H4351-ND  (hidden comment: Center-bar, 40 positions)  (mechanical)
Socket Ribbon Cable 40 POS 1.27mm pitch; Manufacturer 1: Hirose Electric Co Ltd; Manufacturer Part Number 1: FX2BA-40SA-1.27R; Pitch: 0.050" (1.27mm); SCDType: undef; Category: Connectors; Mounting Type: In-Line; Terminal Block Type: Socket, Female; Package / Case: Ribbon cable connector; 1.27mm pitch; Value: Center-bar, 40 positions
pins: 1 OUT2 HI (oc), 2 OUT2 GO (oc), 3 OUT2 LO (oc), 4 N.C. (oc), 5 GND OUT (power), 6 TIMING2 (in), 7 RESET2 (in), 8 ZERO2 (in), 9 P1 (in), 10 P2 (in), 11 P3 (in), 12 GND IN (power), 13 BIN 0 (oc), 14 BIN 1 (oc), 15 BIN 2 (oc), 16 BIN 3 (oc), 17 BIN 4 (oc), 18 BIN 5 (oc), 19 BIN 6 (oc), 20 BIN 7 (oc), 21 BIN 8 (oc), 22 BIN 9 (oc), 23 BIN 10 (oc), 24 BIN 11 (oc), 25 BIN 12 (oc), 26 BIN 13 (oc), 27 BIN 14 (oc), 28 BIN 15 (oc), 29 BIN 16 (oc), 30 BIN 17 (oc), 31 BIN 18 (oc), 32 BIN 19 (oc), 33 BIN 20 (oc), 34 STROBE (oc), 35 OUT1/OUT2 OUT (oc), 36 GND OUT (power), 37 OUT1/OUT2 SEL (in), 38 LASER OFF A (in), 39 LASER OFF B (in), 40 GND IN (power)

## CONN_SOCKET_1x1P_0.100in
designator J?  (value not drawn)
Socket header THT 1-Pos Low profile Single-row 2.54mm pitch; Manufacturer 1: Mill-Max Manufacturing Corp.; Manufacturer Part Number 1: 801-93-064-10-002000; Pitch: 0.100" (2.54mm); Value: 1x1 Pos.; QtyOverride: 0.02; SCDType: undef; Category: Connectors; Mounting Type: Through Hole; Package / Case: Socket header; 2.54mm pitch; Supplier 1: Digi-Key; Supplier Part Number 1: ED2764-ND
footprint 1x1POS_SOCKET_LOWPROF (Connector Socket, Single-row 1-position, 0.100" pitch)
pins: 1

## CONN_SOCKET_1x3P_0.100in
designator J?  (value not drawn)
Socket header THT 3-Pos Low profile Single-row 2.54mm pitch; Manufacturer 1: Mill-Max Manufacturing Corp.; Manufacturer Part Number 1: 801-93-064-10-002000; Pitch: 0.100" (2.54mm); Value: 1x3 Pos.; QtyOverride: 0.05; SCDType: undef; Category: Connectors; Mounting Type: Through Hole; Package / Case: Socket header; 2.54mm pitch; Supplier 1: Digi-Key; Supplier Part Number 1: ED2764-ND
footprint 1x3POS_SOCKET_LOWPROF (Connector Socket, Single-row 3-position, 0.100" pitch)
pins: 1, 2, 3

## CONN_SOCKET_2x3P_0.100in_Female
designator J?, comment micro-match socket  (value not drawn)
Socket THD 6 POS Double-row 2.54mm pitch; Manufacturer 1: TE Connectivity; Manufacturer Part Number 1: 7-215079-6; Pitch: 0.100" (2.54mm); Value: Double-row, 14 positions; QtyOverride: 1; Connector Type: Receptacle; Number of Positions: 6; SCDType: undef; Package / Case: Connector header; 2.54mm pitch; Contact Type: Female Socket; Number of Rows: 2; Row Spacing: 0.100" (2.54mm); Contact Mating Length: 0.243" (6.17mm); ComponentLink1URL: http://multimedia.3m.com/mws/mediawebserver?66666UuZjcFSLXTtm8T_oxMcEVuQEcuZgVs6EVs6E666666--; ComponentLink1Description: http://multimedia.3m.com/mws/mediawebserver?66666UuZjcFSLXTtm8T_oxMcEVuQEcuZgVs6EVs6E666666--; Supplier 1: Digi-Key; Supplier Part Number 1: A30729CT-ND
footprint 6P_PCB_SOCKET_BRD_MNT_MICRO-MATCH (SOCKET MICRO-MATCH BRD MNT 6POS 2.54MM)
pins: 1, 2, 3, 4, 5, 6

## CONN_SOCKET_2x17P_0.100in
designator J?  Supplier 1: Digi-Key  Supplier Part Number 1: MSPV34-ND  (hidden comment: *)
Socket, THT, 34 POS, Double-row, 2.54mm pitch; Manufacturer 1: 3M; Manufacturer Part Number 1: 8534-4500PL; Pitch: 0.100" (2.54mm); Value: Double-row, 34 positions; SCDType: undef; Category: Connectors; Mounting Type: Through Hole; Terminal Block Type: Socket, Female; Package / Case: Connector socket; 2.54mm pitch
footprint 34P_PCB_SOCKET_BRD_MNT (SOCKET BRD MNT 34POS 2.54MM)
pins: 1 AO GND, 2 AO 0, 3 AO GND, 4 AO 1, 5 AO GND, 6 AI GND, 7 NC, 8 AI GND, 9 AI SENSE, 10 AI GND, 11 AI 0, 12 AI 8, 13 AI GND, 14 AI 1, 15 AI 9, 16 AI GND, 17 AI 2, 18 AI 10, 19 AI GND, 20 AI 3, 21 AI 11, 22 AI GND, 23 AI 4, 24 AI 12, 25 AI GND, 26 AI 5, 27 AI 13, 28 AI GND, 29 AI 6, 30 AI 14, 31 AI GND, 32 AI 7, 33 AI 15, 34 AI GND

## CONN_SOCKET_2x20P_0.100in  Rpi Female
designator J?, comment 2223  (value not drawn)
40 Position Header Connector 0.100" (2.54mm) Through Hole Gold; Value: Double-row, 50 positions; SCDType: undef; Category: Connectors; Mounting Type: Through Hole; Pitch: 0.100" (2.54mm); Terminal Block Type: Socket, Female; Package / Case: Connector socket; 2.54mm pitch; Supplier 1: Digi-Key; Supplier Part Number 1: 1528-1385-ND
footprint 40P_PCB_SOCKET_BRD_MNT  REVERSE (SOCKET BRD MNT 40POS 2.54MM)
pins: 1 P0.0, 2 D GND, 3 P0.1, 4 D GND, 5 P0.2, 6 D GND, 7 P0.3, 8 D GND (in), 9 P0.4, 10 D GND (in), 11 P0.5, 12 D GND, 13 P0.6, 14 D GND, 15 P0.7, 16 D GND, 17 PFI 0/P1.0, 18 D GND, 19 PFI 1/P1.1, 20 D GND, 21 PFI 2/P1.2, 22 D GND, 23 PFI 3/P1.3, 24 D GND, 25 PFI 4/P1.4, 26 D GND, 27 PFI 5/P1.5, 28 D GND, 29 PFI 6/P1.6, 30 D GND, 31 PFI 7/P1.7, 32 D GND, 33 PFI 8/P2.0, 34 D GND, 35 PFI 9/P2.1, 36 D GND, 37 PFI 10/P2.2, 38 D GND, 39 PFI 11/P2.3, 40 D GND

## CONN_SOCKET_2x20P_0.100in  Rpi Female_SMD
designator J?, comment HLE-120-02-L-DV-A  (value not drawn)
40 Position Receptacle Connector Gold 0.100" (2.54mm) Surface Mount; Value: Double-row, 50 positions; SCDType: undef; Category: Connectors; Mounting Type: Through Hole; Pitch: 0.100" (2.54mm); Terminal Block Type: Socket, Female; Package / Case: Connector socket; 2.54mm pitch; Supplier 1: Digi-Key; Supplier Part Number 1: 609-3054-ND
footprint HLE-120-02-L-DV-A-ND-Mirrored! (.100" Tiger Beam™ Cost-effective Single Beam Socket Strip)
footprint HLE-120-02-L-DV-A-ND-Mirrored! - Modified for Circuitboard (.100" Tiger Beam™ Cost-effective Single Beam Socket Strip)
footprint 89898-320LF - Mirrored! - Modified for Circuitboard (DUBOX™ 40 Position Vertical Card Connector, Surface Mount, Double row, Dual entry)
pins: 1 P0.0, 2 D GND, 3 P0.1, 4 D GND, 5 P0.2, 6 D GND, 7 P0.3, 8 D GND (in), 9 P0.4, 10 D GND (in), 11 P0.5, 12 D GND, 13 P0.6, 14 D GND, 15 P0.7, 16 D GND, 17 PFI 0/P1.0, 18 D GND, 19 PFI 1/P1.1, 20 D GND, 21 PFI 2/P1.2, 22 D GND, 23 PFI 3/P1.3, 24 D GND, 25 PFI 4/P1.4, 26 D GND, 27 PFI 5/P1.5, 28 D GND, 29 PFI 6/P1.6, 30 D GND, 31 PFI 7/P1.7, 32 D GND, 33 PFI 8/P2.0, 34 D GND, 35 PFI 9/P2.1, 36 D GND, 37 PFI 10/P2.2, 38 D GND, 39 PFI 11/P2.3, 40 D GND

## CONN_SOCKET_2x25P_0.100in
designator J?  Supplier 1: Digi-Key  Supplier Part Number 1: MSPV50-ND  (hidden comment: *)
Socket, THT, 50 POS, Double-row, 2.54mm pitch; Manufacturer 1: 3M; Manufacturer Part Number 1: 8550-4500PL; Pitch: 0.100" (2.54mm); Value: Double-row, 50 positions; SCDType: undef; Category: Connectors; Mounting Type: Through Hole; Terminal Block Type: Socket, Female; Package / Case: Connector socket; 2.54mm pitch
footprint 50P_PCB_SOCKET_BRD_MNT (SOCKET BRD MNT 50POS 2.54MM)
pins: 1 P0.0, 2 D GND, 3 P0.1, 4 D GND, 5 P0.2, 6 D GND, 7 P0.3, 8 D GND, 9 P0.4, 10 D GND, 11 P0.5, 12 D GND, 13 P0.6, 14 D GND, 15 P0.7, 16 D GND, 17 PFI 0/P1.0, 18 D GND, 19 PFI 1/P1.1, 20 D GND, 21 PFI 2/P1.2, 22 D GND, 23 PFI 3/P1.3, 24 D GND, 25 PFI 4/P1.4, 26 D GND, 27 PFI 5/P1.5, 28 D GND, 29 PFI 6/P1.6, 30 D GND, 31 PFI 7/P1.7, 32 D GND, 33 PFI 8/P2.0, 34 D GND, 35 PFI 9/P2.1, 36 D GND, 37 PFI 10/P2.2, 38 D GND, 39 PFI 11/P2.3, 40 D GND, 41 PFI 12/P2.4, 42 D GND, 43 PFI 13/P2.5, 44 D GND, 45 PFI 14/P2.6, 46 D GND, 47 PFI 15/P2.7, 48 D GND, 49 +5 V, 50 +5 V

## ETHERNET_CAT5e_TE_5558342-1
designator RJ?, comment 5558342-1  (value not drawn)
Jack Modular Connector 8p8c (RJ45, Ethernet) 90° Angle (Right) Shielded Cat5e; Manufacturer: TE Connectivity AMP Connectors; Number of Ports: 1; LED Color: Does Not Contain LED; Tab Direction: Down; Manufacturer Part Number: 5558342-1; RoHS: RoHS Compliant; Category: Connectors, Interconnects; Packaging: Tray; Part Status: Active; Connector Type: Jack; Number of Positions/Contacts: 8p8c (RJ45, Ethernet); Number of Rows: 1; Mounting Type: Through Hole; Orientation: 90° Angle (Right); Termination: Solder; Shielding: Shielded; Ratings: Cat5e; Features: Board Guide; Ingress Protection: -; Contact Material: Phosphor Bronze; Contact Finish: Gold; Contact Finish Thickness: 50µin (1.27µm); Housing Material: Polyamide (PA), Nylon; Operating Temperature: -40°C ~ 85°C; ComponentLink1URL: http://www.te.com/commerce/DocumentDelivery/DDEController?Action=srchrtrv&DocNm=5558342&DocType=Customer+Drawing&DocLang=English; ComponentLink1Description: http://www.te.com/commerce/DocumentDelivery/DDEController?Action=srchrtrv&DocNm=5558342&DocType=Customer+Drawing&DocLang=English; Supplier 1: Digi-Key; Supplier Part Number 1: A31466-ND
footprint Ethernet_CAT5e_TE_5558342-1 (Jack Modular Connector 8p8c (RJ45, Ethernet) 90° Angle (Right) Shielded Cat5e)
pins: 1 BI_DA+, 2 BI_DA-, 3 BI_DB+, 4 BI_DC+, 5 BI_DC-, 6 BI_DB-, 7 BI_DD+, 8 BI_DD-, GND
text: RJ45; CAT5e Shielded

## Ethernet_Jack_SMD_2178415-1
designator J?, comment 2178415-1
Jack Modular Connector 8p8c (RJ45, Ethernet) 90° Angle (Right) Shielded, EMI Finger Cat5; Manufacturer: TE Connectivity; Number of Ports: 1; Direction: Up; Keyed: No; Number of Positions: 8; Element Configuration: Single; PCB Mounting Orientation: Right Angle; Supplier 1: Digi-Key; Supplier Part Number 1: A118399DKR-ND; Stock 1: 609; Pricing 1: 1=2.21, 10=2.123, 25=1.9464, 50=1.858, 100=1.7695 (USD); Case/Package: SMD/SMT; Contact Material: Bronze; Contact Plating: Gold; Housing Material: Thermoplastic; Housing Colour: Black; Min Operating Temperature: -40°C; Max Operating Temperature: 85°C; Package Quantity: 200; Packaging: Tape and Reel; Number of Rows: 1; Shielding: Shielded; Termination: SMD/SMT; Orientation: Right Angle; Connector Type: Jack; ELV: Compliant; Flammability Rating: UL94 V-0; ComponentLink1URL: https://datasheet.ciiva.com/29168/eng-cd-2178415-a-29168058.pdf; ComponentLink1Description: https://datasheet.ciiva.com/29168/eng-cd-2178415-a-29168058.pdf; Manufacturer Part Number: 2178415-1
footprint Ethernet_CAT5_SMD_2178415-1
pins: 1 BI_DA+, 2 BI_DA-, 3 BI_DB+, 4 BI_DC+, 5 BI_DC-, 6 BI_DB-, 7 BI_DD+, 8 BI_DD-, GND
text: RJ45; CAT5e Shielded

## Header2P
designator H?, comment Header  (no BOM)
Header, 2-pin
footprint HDR_1x2_Offset
footprint HDR_1X2X276
pins: 1, 2

## Header4P
designator H?, comment Programmer  (value not drawn)  (no BOM)
Header 4-pin
footprint HDR1X4_1.27MMP (Connector; Header; 4 Position, 0.050" pitch)
footprint HDR1X4_2.54MMP (Connector; Header; 4 Position 0.100" pitch)
footprint CONN_FLATFLEX_4C_1MMP_5MML
footprint CONN_FLATFLEX_4C_1MMP_3MML_TOP
footprint CONN_FLATFLEX_4C_1MMP_3MML_BOT
pins: 1, 2, 3, 4

## Header5P
designator H?, comment Programmer  (value not drawn)  (no BOM)
Header 5-pin
footprint HDR1X5_1.27MMP (Connector; Header; 5 Position, 0.050" pitch)
footprint HDR1X5_2.54MMP (Connector; Header; 5 Position 0.100" pitch)
footprint HDR1X5_1.27MMP_MIN (Programming connector target; 5 Position with minimally sized pads, 0.050" pitch)
pins: 1, 2, 3, 4, 5

## Header6P
designator P?, comment Programmer  (no BOM)
Header, 6-pin
footprint HDR1X6 (Connector; Header; 6 Position)
pins: 1, 2, 3, 4, 5, 6

## Header7P
designator P?, comment Programmer  (no BOM)
Header, 7-pin
footprint HDR1X7 (Connector; Header; 7 Position)
pins: 1, 2, 3, 4, 5, 6, 7

## HEADER_2x5P_50in
designator J?, comment GRPB052MWCN-RC  (value not drawn)
10 Positions Header, Unshrouded Connector 0.050" (1.27mm) Through Hole, Right Angle Gold; Pitch: 0.50" (1.27mm); SCDType: undef; Supplier 1: Digi-Key; Supplier Part Number 1: S9017E-05-ND
footprint Header_2x5_1.27mm (10 Positions Header, Unshrouded Connector 0.050" (1.27mm) Through Hole, Right Angle Gold)
pins: 1 P0.0, 2 D GND, 3 P0.1, 4 D GND, 5 P0.2, 6 D GND, 7 P0.3, 8 D GND, 9 P0.4, 10 D GND

## JST_B6B-PH-SM4
designator J?, comment B6B-PH-SM4-TB  (value not drawn)
6 Positions Header, Shrouded Connector 0.079" (2.00mm) Surface Mount Tin; Supplier 1: Digi-Key; Supplier Part Number 1: 455-1738-1-ND
footprint B6B-PH-SM4-TB (6 Positions Header, Shrouded Connector 0.079" (2.00mm) Surface Mount Tin)
pins: 1, 2, 3, 4, 5, 6

## JST_PH_B2B
designator J?  (value not drawn)
2mm Pitch; Supplier 1: Digi-Key; Supplier Part Number 1: 455-1704-ND
footprint JST_PH_2_B2B
pins: 1, 2

## JST_PH_B3B
designator J?  (value not drawn)
2mm Pitch; Supplier 1: Digi-Key; Supplier Part Number 1: 455-1705-ND
footprint JST_PH_3_B3B
pins: 1, 2, 3

## JST_PH_B4B
designator J?  (value not drawn)
2mm Pitch; Supplier 1: Digi-Key; Supplier Part Number 1: 455-1706-ND
footprint JST_PH_4_B4B
pins: 1, 2, 3, 4

## JST_PH_B6B
designator J?, comment Supplier Part Number 1: 455-1708-ND  (hidden comment: B6B-PH-K-S)
2mm Pitch; Supplier 1: Digi-Key
footprint JST_PH_6_B6B
pins: 1, 2, 3, 4, 5, 6

## JST_PH_B7B
designator J?, comment B7B-PH-K-S  (value not drawn)
2mm Pitch; Supplier 1: Digi-Key; Supplier Part Number 1: 455-1709-ND
footprint JST_PH_7_B7B
pins: 1, 2, 3, 4, 5, 6, 7

## JST_PH_S2B
designator J?  (value not drawn)
2mm Pitch; Supplier 1: Digi-Key; Supplier Part Number 1: 455-1749-1-ND
footprint JST_PH_S2B
pins: 1, 2